# EAGLE library part USB (library F405Pill)
USB Connectors USB-B-PTH is fully proven SKU : PRT-00139 USB-miniB is fully proven SKU : PRT-00587 USB-A-PCB is untested. USB-A-H is throughly reviewed, but untested. Spark Fun Electronics SKU : PRT-00437 USB-B-SMT is throughly reviewed, but untested. Needs silkscreen touching up. USB-A-S has not been used/tested USB-MB-H has not been used/tested
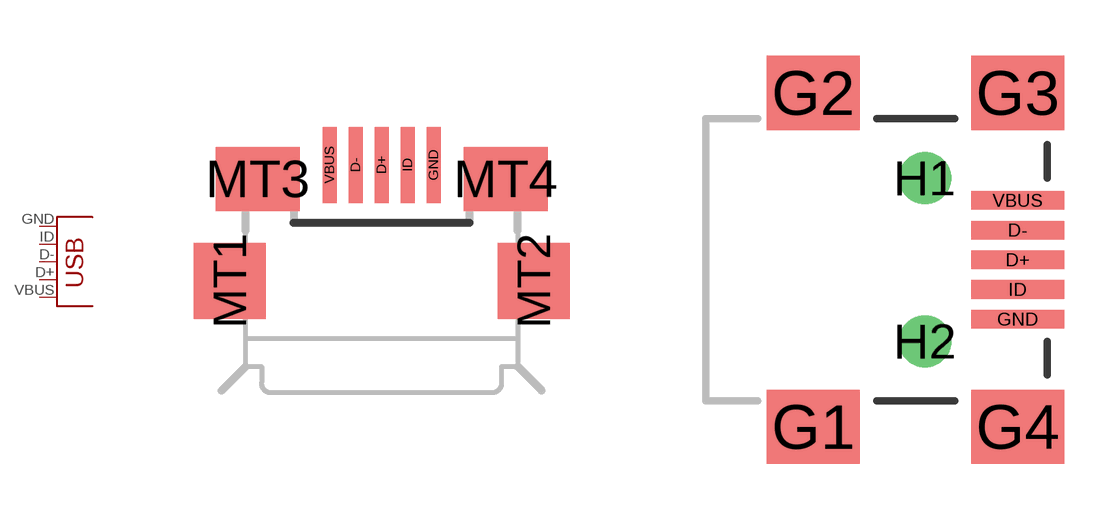
[diagram p1: symbol with the pads of USB-MICROB-SMD; footprints USB-MICROB-SMD, USB-MINIB-NOSTOP]

Designator prefix X; gates G$1=USB G$2=POINT G$3=POINT G$4=POINT G$5=POINT

## USB-MICROB-SMD  [USB-MICROB-SMD]
D+  G$1:D+
D-  G$1:D-
GND  G$1:GND
ID  G$1:ID
MT1  G$2:P$1
MT2  G$3:P$1
MT3  G$4:P$1
MT4  G$5:P$1
VBUS  G$1:VBUS

## USB-SMD-NS  [USB-MINIB-NOSTOP]
D+  G$1:D+
D-  G$1:D-
G1  G$2:P$1
G2  G$3:P$1
G3  G$4:P$1
G4  G$5:P$1
GND  G$1:GND
ID  G$1:ID
VBUS  G$1:VBUS

## USBOLD  [USB-MINIB-OLD]
1  G$2:P$1
2  G$3:P$1
3  G$4:P$1
4  G$5:P$1
D+  G$1:D+
D-  G$1:D-
GND  G$1:GND
ID  G$1:ID
VBUS  G$1:VBUS

## USBSMD  [USB-MINIB]
D+  G$1:D+
D-  G$1:D-
GND  G$1:GND
ID  G$1:ID
MTN1  G$2:P$1
MTN2  G$3:P$1
MTN3  G$4:P$1
MTN4  G$5:P$1
VBUS  G$1:VBUS

## Footprint USB-MICROB-SMD (pad centres in mm)
Micro USB Package
smd 0.35 x 1.9: D+ 0,2.9; D- -0.65,2.9; GND 1.3,2.9; ID 0.65,2.9; VBUS -1.3,2.9
smd 1.8 x 1.9: MT1 -3.8,0; MT2 3.8,0
smd 2.1 x 1.6: MT3 -3.1,2.55; MT4 3.1,2.55

## Footprint USB-MINIB-NOSTOP (pad centres in mm)
smd 2.5 x 0.5: D+ 2.5,0; D- 2.5,0.8; GND 2.5,-1.6; ID 2.5,-0.8; VBUS 2.5,1.6
smd 2.5 x 2: G1 -3,-4.5; G2 -3,4.5; G3 2.5,4.5; G4 2.5,-4.5
drill 0.9 pad 0.8: H1 0,2.2
drill 0.9 pad 0.787: H2 0,-2.2

## Footprint USB-MINIB-OLD (pad centres in mm)
USB Series Mini-B Surface Mounted
smd 2.5 x 2: 1 -3,-4.5; 2 -3,4.5
smd 3.5 x 2: 3 3,-4.5; 4 3,4.5
smd 3.5 x 0.5: D+ 3,0; D- 3,0.8; GND 3,-1.6; ID 3,-0.8; VBUS 3.01,1.61
hole 0.9 at 0,2.2
hole 0.9 at 0,-2.2

## Footprint USB-MINIB (pad centres in mm)
USB Series Mini-B Surface Mounted
smd 2.5 x 0.5: D+ 2.5,0; D- 2.5,0.8; GND 2.5,-1.6; ID 2.5,-0.8; VBUS 2.5,1.6
smd 2.5 x 2: MTN1 -3,4.5; MTN2 2.5,4.5; MTN3 -3,-4.5; MTN4 2.5,-4.5
hole 0.9 at 0,2.2
hole 0.9 at 0,-2.2